# Altium schematic symbol library TLC2543.SchLib: 1 symbol
Pins are listed as number, name and electrical type; pins without a type are passive.

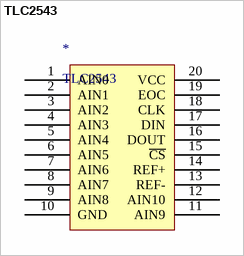
[diagram p0: symbol TLC2543]

## TLC2543
designator *
footprint Model Name (Footprint not found)
pins: 1 AIN0, 2 AIN1, 3 AIN2, 4 AIN3, 5 AIN4, 6 AIN5, 7 AIN6, 8 AIN7, 9 AIN8, 10 GND, 11 AIN9, 12 AIN10, 13 REF-, 14 REF+, 15 ~{CS}, 16 DOUT, 17 DIN, 18 CLK, 19 EOC, 20 VCC